# EAGLE library part DRV8302 (library ic-TI)
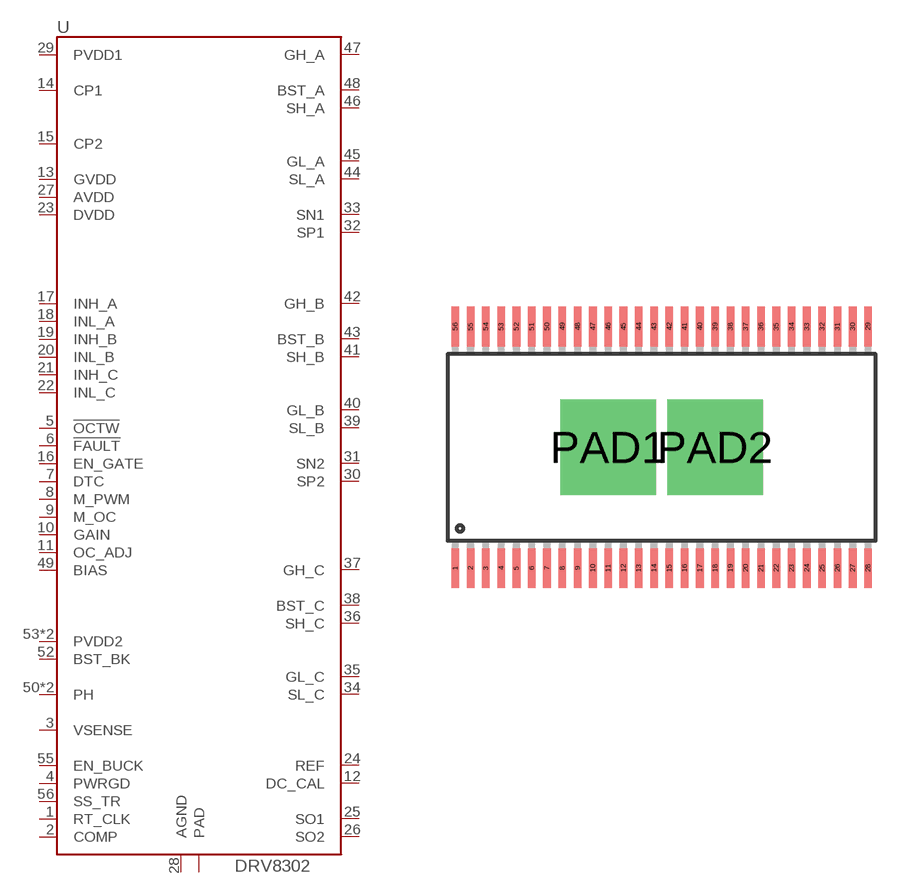
[diagram p28: symbol with the pads of TSSOP56-PAD; footprint TSSOP56-PAD]

Designator prefix U

## DRV8302  [TSSOP56-PAD]
1  RT_CLK
2  COMP
3  VSENSE
4  PWRGD
5  !OCTW
6  !FAULT
7  DTC
8  M_PWM
9  M_OC
10  GAIN
11  OC_ADJ
12  DC_CAL
13  GVDD
14  CP1
15  CP2
16  EN_GATE
17  INH_A
18  INL_A
19  INH_B
20  INL_B
21  INH_C
22  INL_C
23  DVDD
24  REF
25  SO1
26  SO2
27  AVDD
28  AGND
29  PVDD1
30  SP2
31  SN2
32  SP1
33  SN1
34  SL_C
35  GL_C
36  SH_C
37  GH_C
38  BST_C
39  SL_B
40  GL_B
41  SH_B
42  GH_B
43  BST_B
44  SL_A
45  GL_A
46  SH_A
47  GH_A
48  BST_A
49  BIAS
50  PH
51  PH
52  BST_BK
53  PVDD2
54  PVDD2
55  EN_BUCK
56  SS_TR
PAD1  PAD
PAD2  PAD

## Footprint TSSOP56-PAD (pad centres in mm)
smd 0.25 x 1.3: 1 -6.75,-3.95; 2 -6.25,-3.95; 3 -5.75,-3.95; 4 -5.25,-3.95; 5 -4.75,-3.95; 6 -4.25,-3.95; 7 -3.75,-3.95; 8 -3.25,-3.95; 9 -2.75,-3.95; 10 -2.25,-3.95; 11 -1.75,-3.95; 12 -1.25,-3.95; 13 -0.75,-3.95; 14 -0.25,-3.95; 15 0.25,-3.95; 16 0.75,-3.95; 17 1.25,-3.95; 18 1.75,-3.95; 19 2.25,-3.95; 20 2.75,-3.95; 21 3.25,-3.95; 22 3.75,-3.95; 23 4.25,-3.95; 24 4.75,-3.95; 25 5.25,-3.95; 26 5.75,-3.95; 27 6.25,-3.95; 28 6.75,-3.95; 29 6.75,3.95; 30 6.25,3.95; 31 5.75,3.95; 32 5.25,3.95; 33 4.75,3.95; 34 4.25,3.95; 35 3.75,3.95; 36 3.25,3.95; 37 2.75,3.95; 38 2.25,3.95; 39 1.75,3.95; 40 1.25,3.95; 41 0.75,3.95; 42 0.25,3.95; 43 -0.25,3.95; 44 -0.75,3.95; 45 -1.25,3.95; 46 -1.75,3.95; 47 -2.25,3.95; 48 -2.75,3.95; 49 -3.25,3.95; 50 -3.75,3.95; 51 -4.25,3.95; 52 -4.75,3.95; 53 -5.25,3.95; 54 -5.75,3.95; 55 -6.25,3.95; 56 -6.75,3.95
drill 2.1 pad 3 square: PAD1 -1.75,0; PAD2 1.75,0